# EAGLE library part LM3658SD/NOPB (library Battery Chargers)
Charger IC Lithium Ion/Polymer 10-WSON (3x3) Manufacturer's datasheet <https://www.ti.com/lit/ds/symlink/lm3658.pdf?HQS=TI-null-null-digikeymode-df-pf-null-wwe&ts=1594291631894>
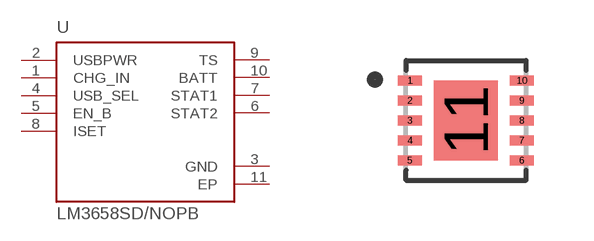
[diagram p16: symbol with the pads of LM3658SD/NOPB; footprint LM3658SD/NOPB]

Designator prefix U

## LM3658SD/NOPB (CREATED_BY: PCBLayout.com; DIGIKEY_PART_NUMBER: LM3658SD/NOPBCT-ND; MANUFACTURER: Texas Instruments; MPN: LM3658SD/NOPB; PACKAGE: 10-WSON)  [LM3658SD/NOPB]
1  CHG_IN  in
2  USBPWR  in
3  GND  pwr
4  USB_SEL  in
5  EN_B  in
6  STAT2  out
7  STAT1  out
8  ISET  pas
9  TS  out
10  BATT  pas
11  EP  pwr

## Footprint LM3658SD/NOPB (pad centres in mm)
smd 0.6 x 0.25: 1 -1.4,1; 2 -1.4,0.5; 3 -1.4,0; 4 -1.4,-0.5; 5 -1.4,-1; 6 1.4,-1; 7 1.4,-0.5; 8 1.4,0; 9 1.4,0.5; 10 1.4,1
smd 1.6 x 2: 11 0,0